# EAGLE library part SSW-112-02-S-S (library con-samtec)
THROUGH-HOLE .025" SQ POST SOCKET Source: Samtec SSW.pdf
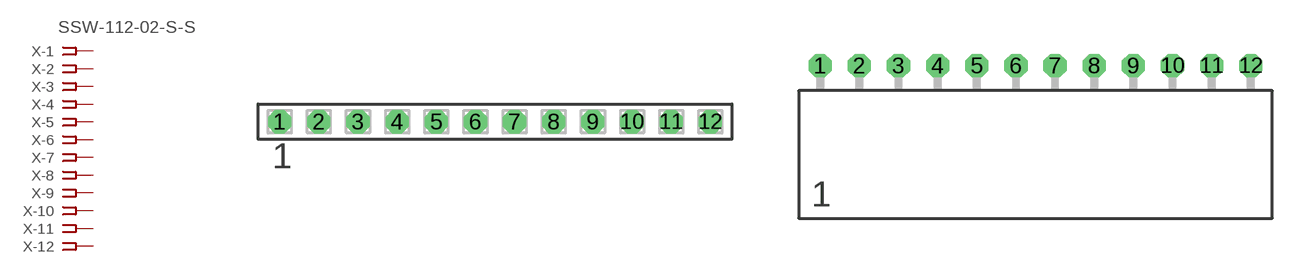
[diagram p92: symbol with the pads of SSW-112-02-S-S; footprints SSW-112-02-S-S, SSW-112-02-S-S-RA]

Designator prefix X; gates -1=FPINV -2=FPIN -3=FPIN -4=FPIN -5=FPIN -6=FPIN -7=FPIN -8=FPIN -9=FPIN -10=FPIN -11=FPIN -12=FPIN

## SSW-112-02-S-S  [SSW-112-02-S-S]
1  -1:1  pas
2  -2:1  pas
3  -3:1  pas
4  -4:1  pas
5  -5:1  pas
6  -6:1  pas
7  -7:1  pas
8  -8:1  pas
9  -9:1  pas
10  -10:1  pas
11  -11:1  pas
12  -12:1  pas

## SSW-112-02-S-S-RA  [SSW-112-02-S-S-RA]
Pads as for SSW-112-02-S-S

## Footprint SSW-112-02-S-S (pad centres in mm)
THROUGH-HOLE .025" SQ POST SOCKET Source: Samtec SSW.pdf
drill 1 pad 1.5 octagon: 1 -13.97,0; 2 -11.43,0; 3 -8.89,0; 4 -6.35,0; 5 -3.81,0; 6 -1.27,0; 7 1.27,0; 8 3.81,0; 9 6.35,0; 10 8.89,0; 11 11.43,0; 12 13.97,0

## Footprint SSW-112-02-S-S-RA (pad centres in mm)
THROUGH-HOLE .025" SQ POST SOCKET Source: Samtec SSW.pdf
drill 1 pad 1.5 octagon: 1 -13.97,1.524; 2 -11.43,1.524; 3 -8.89,1.524; 4 -6.35,1.524; 5 -3.81,1.524; 6 -1.27,1.524; 7 1.27,1.524; 8 3.81,1.524; 9 6.35,1.524; 10 8.89,1.524; 11 11.43,1.524; 12 13.97,1.524